# EAGLE library part SIM7020 (library SIMCOM)
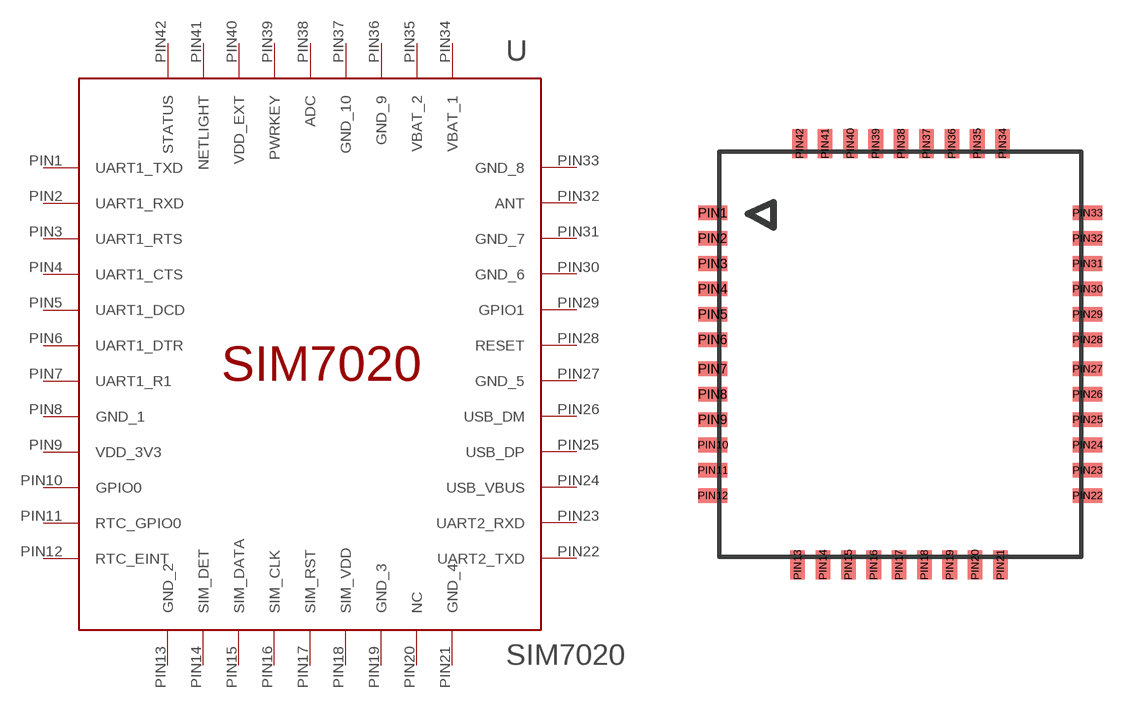
[diagram p3: symbol with the pads of SIM7020; footprint SIM7020]

Designator prefix -

## SIM7020 (MF: SIMCOM; MPN: SIM7020)  [SIM7020]
PIN1  UART1_TXD
PIN2  UART1_RXD
PIN3  UART1_RTS
PIN4  UART1_CTS
PIN5  UART1_DCD
PIN6  UART1_DTR
PIN7  UART1_R1
PIN8  GND_1
PIN9  VDD_3V3
PIN10  GPIO0
PIN11  RTC_GPIO0
PIN12  RTC_EINT
PIN13  GND_2
PIN14  SIM_DET
PIN15  SIM_DATA
PIN16  SIM_CLK
PIN17  SIM_RST
PIN18  SIM_VDD
PIN19  GND_3
PIN20  NC
PIN21  GND_4
PIN22  UART2_TXD
PIN23  UART2_RXD
PIN24  USB_VBUS
PIN25  USB_DP
PIN26  USB_DM
PIN27  GND_5
PIN28  RESET
PIN29  GPIO1
PIN30  GND_6
PIN31  GND_7
PIN32  ANT
PIN33  GND_8
PIN34  VBAT_1
PIN35  VBAT_2
PIN36  GND_9
PIN37  GND_10
PIN38  ADC
PIN39  PWRKEY
PIN40  VDD_EXT
PIN41  NETLIGHT
PIN42  STATUS

## Footprint SIM7020 (pad centres in mm)
smd 1.27 x 0.635: PIN1 -8.128,6.135; PIN2 -8.128,5.035; PIN3 -8.128,3.935; PIN4 -8.128,2.835; PIN5 -8.128,1.735; PIN6 -8.128,0.635; PIN7 -8.128,-0.635; PIN8 -8.128,-1.735; PIN9 -8.128,-2.835; PIN10 -8.128,-3.935; PIN11 -8.128,-5.035; PIN12 -8.128,-6.135; PIN22 8.128,-6.135; PIN23 8.128,-5.035; PIN24 8.128,-3.935; PIN25 8.128,-2.835; PIN26 8.128,-1.735; PIN27 8.128,-0.635; PIN28 8.128,0.635; PIN29 8.128,1.735; PIN30 8.128,2.835; PIN31 8.128,3.935; PIN32 8.128,5.035; PIN33 8.128,6.135
smd 0.635 x 1.27: PIN13 -4.445,-9.144; PIN14 -3.345,-9.144; PIN15 -2.245,-9.144; PIN16 -1.145,-9.144; PIN17 -0.045,-9.144; PIN18 1.055,-9.144; PIN19 2.155,-9.144; PIN20 3.255,-9.144; PIN21 4.355,-9.144; PIN34 4.445,9.144; PIN35 3.345,9.144; PIN36 2.245,9.144; PIN37 1.145,9.144; PIN38 0.045,9.144; PIN39 -1.055,9.144; PIN40 -2.155,9.144; PIN41 -3.255,9.144; PIN42 -4.355,9.144